# Altium footprint library JST ZE SMT 4POS.PcbLib: 1 footprints
Each footprint in its own frame and in the unit in brackets; x right, y up, seen from the top. Pads: shape width x height; smd on the part's side, far side on the other; paste and mask are expansions set on the pad; w line width, h text height; cw(c..) or ccw(c..) is an arc to the next point about the centre after c.
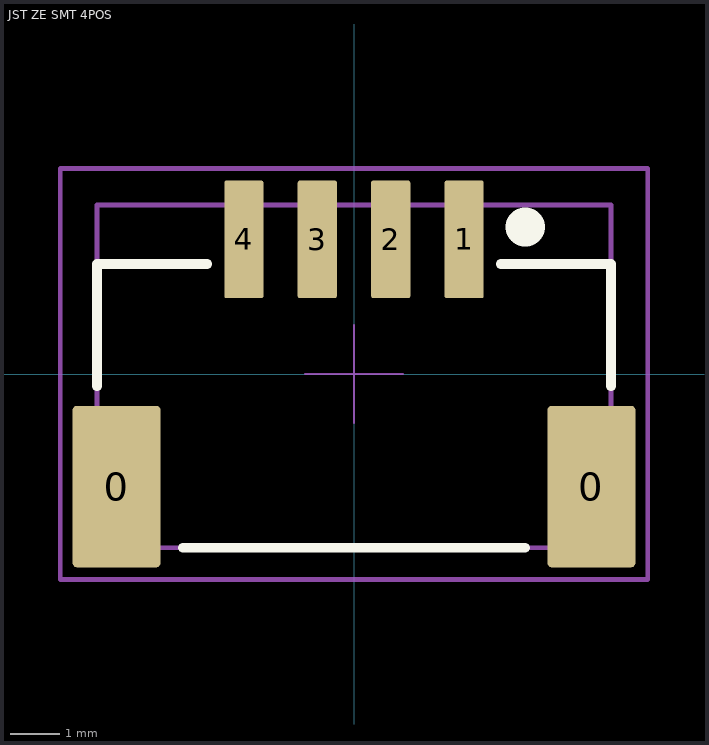
[diagram p0: the footprint, top view; thin cyan lines are the x and y axes]

## JST ZE SMT 4POS [mm] "4 POS HDR JST ZE"
pads (6):
  rrect10% 1.8x3.3 smd: 0(-4.85,-2.3) 0(4.85,-2.3)
  rrect10% 0.8x2.4 smd: 1(2.25,2.75) 2(0.75,2.75) 3(-0.75,2.75) 4(-2.25,2.75)
Top Overlay:
  circle w0.8: c3.5,3 r0
  lines w0.2: -5.25,-0.25 -5.25,2.25 -3,2.25 ; -3.5,-3.55 3.5,-3.55 ; 3,2.25 5.25,2.25 5.25,-0.25
Mechanical 13:
  lines w0.1: -5.25,-3.55 -5.25,3.45 5.25,3.45 5.25,-3.55 -5.25,-3.55
Mechanical 15:
  lines w0.05: 0,-1 0,0 ; 0,1 0,0 ; 1,0 0,0 ; 0,0 -1,0 0,0
  lines w0.1: -6,-4.2 -6,4.2 6,4.2 6,-4.2 -6,-4.2